# EAGLE library part LPC4078FET180 (library nxp)
32-bit ARM Cortex-M4 MCU; up to 512 kB flash, 96 kB SRAM; USB Device/Host/OTG; Ethernet; LCD; EMC; SPIFI The LPC408x/7x is an ARM Cortex-M4 based digital signal controller for embedded applications requiring a high level of integration and low power dissipation. The ARM Cortex-M4 is a next generation core that offers system enhancements such as low power consumption, enhanced debug features, and a high level of support block integration. The ARM Cortex-M4 CPU incorporates a 3-stage pipeline, uses a Harvard architecture with separate local instruction and data buses as well as a third bus for peripherals, and includes an internal prefetch unit that supports speculative branching. The ARM Cortex-M4 supports single-cycle digital signal processing and SIMD instructions. A hardware floating-point processor is integrated in the core for several versions of the part. The LPC408x/7x adds a specialized flash memory accelerator to accomplish optimal performance when executing code from flash. The LPC408x/7x is targeted to operate at up to 120 MHz CPU frequency. The peripheral complement of the LPC408x/7x includes up to 512 kB of flash program memory, up to 96 kB of SRAM data memory, up to 4032 byte of EEPROM data memory, External Memory controller (EMC), LCD, Ethernet, USB Device/Host/OTG, an SPI Flash Interface (SPIFI), a General Purpose DMA controller, five UARTs, three SSP controllers, three I2C-bus interfaces, a Quadrature Encoder Interface, four general purpose timers, two general purpose PWMs with six outputs each and one motor control PWM, an ultra-low power RTC with separate battery supply and event recorder, a windowed watchdog timer, a CRC calculation engine and up to 165 general purpose I/O pins. The analog peripherals include one eight-channel 12-bit ADC, two analog comparators, and a DAC. The pinout of LPC408x/7x is intended to allow pin function compatibility with the LPC24xx/23xx as well as the LPC178x/7x families.
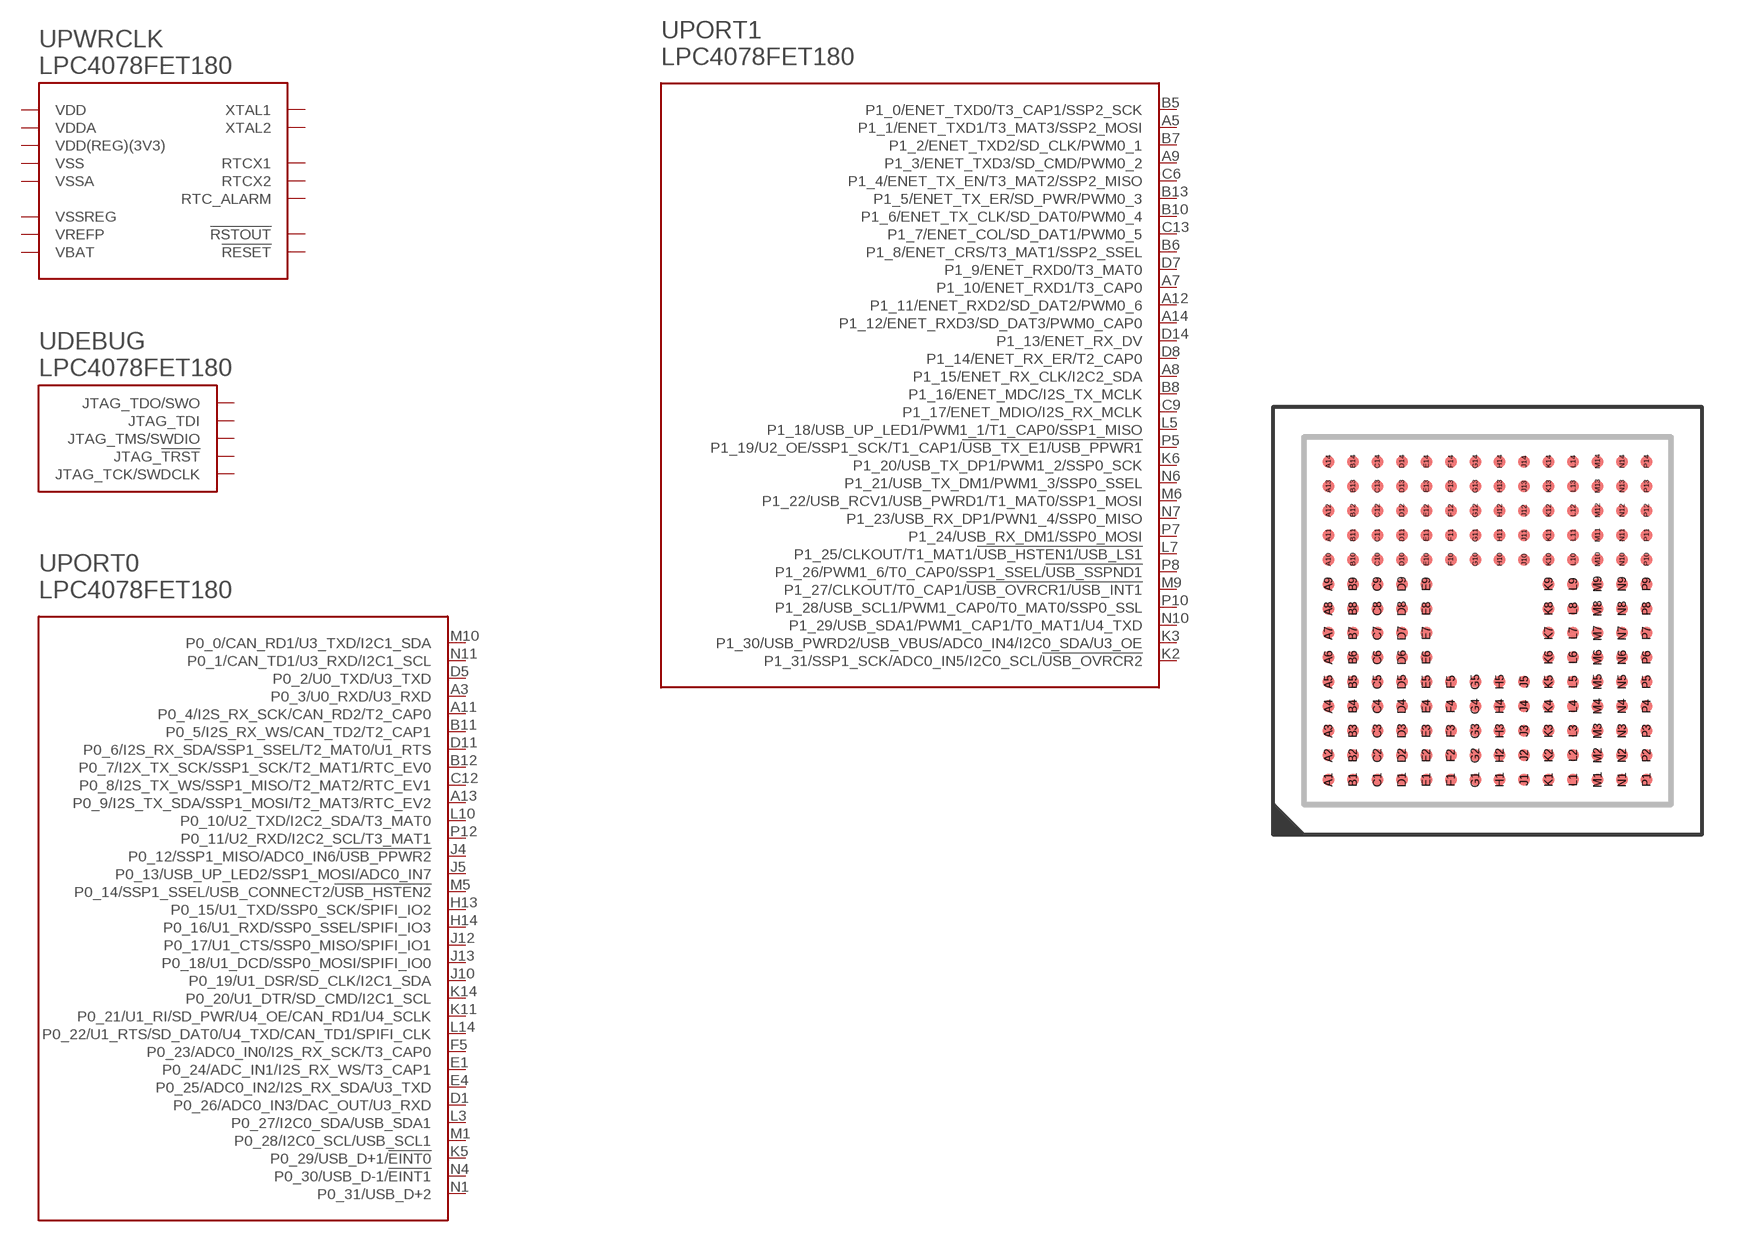
[diagram p3: symbol with the pads of SOT570-2; footprint SOT570-2]

Designator prefix U; gates PWRCLK=LPC40X8-PWRCLK DEBUG=LPC40X8-DEBUG PORT0=LPC40X8-PORT0 PORT1=LPC40X8-PORT1

## LPC4078FET180  [SOT570-2]
A3  PORT0:P0_3/U0_RXD/U3_RXD
A5  PORT1:P1_1/ENET_TXD1/T3_MAT3/SSP2_MOSI
A7  PORT1:P1_10/ENET_RXD1/T3_CAP0
A8  PORT1:P1_15/ENET_RX_CLK/I2C2_SDA
A9  PORT1:P1_3/ENET_TXD3/SD_CMD/PWM0_2
A10  PWRCLK:VSSREG  pwr
A11  PORT0:P0_4/I2S_RX_SCK/CAN_RD2/T2_CAP0
A12  PORT1:P1_11/ENET_RXD2/SD_DAT2/PWM0_6
A13  PORT0:P0_9/I2S_TX_SDA/SSP1_MOSI/T2_MAT3/RTC_EV2
A14  PORT1:P1_12/ENET_RXD3/SD_DAT3/PWM0_CAP0
B1  DEBUG:JTAG_TDO/SWO  out
B4  PWRCLK:VSS  pwr
B5  PORT1:P1_0/ENET_TXD0/T3_CAP1/SSP2_SCK
B6  PORT1:P1_8/ENET_CRS/T3_MAT1/SSP2_SSEL
B7  PORT1:P1_2/ENET_TXD2/SD_CLK/PWM0_1
B8  PORT1:P1_16/ENET_MDC/I2S_TX_MCLK
B10  PORT1:P1_6/ENET_TX_CLK/SD_DAT0/PWM0_4
B11  PORT0:P0_5/I2S_RX_WS/CAN_TD2/T2_CAP1
B12  PORT0:P0_7/I2X_TX_SCK/SSP1_SCK/T2_MAT1/RTC_EV0
B13  PORT1:P1_5/ENET_TX_ER/SD_PWR/PWM0_3
C2  DEBUG:JTAG_TMS/SWDIO  in
C3  DEBUG:JTAG_TDI  in
C5  PWRCLK:VDD  pwr
C6  PORT1:P1_4/ENET_TX_EN/T3_MAT2/SSP2_MISO
C9  PORT1:P1_17/ENET_MDIO/I2S_RX_MCLK
C11  PWRCLK:VSS  pwr
C12  PORT0:P0_8/I2S_TX_WS/SSP1_MISO/T2_MAT2/RTC_EV1
C13  PORT1:P1_7/ENET_COL/SD_DAT1/PWM0_5
D1  PORT0:P0_26/ADC0_IN3/DAC_OUT/U3_RXD
D2  DEBUG:JTAG_TCK/SWDCLK  in
D4  DEBUG:JTAG_!TRST  in
D5  PORT0:P0_2/U0_TXD/U3_TXD
D7  PORT1:P1_9/ENET_RXD0/T3_MAT0
D8  PORT1:P1_14/ENET_RX_ER/T2_CAP0
D11  PORT0:P0_6/I2S_RX_SDA/SSP1_SSEL/T2_MAT0/U1_RTS
D13  PWRCLK:VSS  pwr
D14  PORT1:P1_13/ENET_RX_DV
E1  PORT0:P0_24/ADC_IN1/I2S_RX_WS/T3_CAP1
E2  PWRCLK:VDD  pwr
E4  PORT0:P0_25/ADC0_IN2/I2S_RX_SDA/U3_TXD
E9  PWRCLK:VDD(REG)(3V3)  pwr
E10  PWRCLK:VDD  pwr
E12  PWRCLK:VDD  pwr
F2  PWRCLK:VDDA  pwr
F3  PWRCLK:VSSA  pwr
F5  PORT0:P0_23/ADC0_IN0/I2S_RX_SCK/T3_CAP0
G1  PWRCLK:VDD(REG)(3V3)  pwr
G2  PWRCLK:VREFP  pwr
G13  PWRCLK:VSS  pwr
H2  PWRCLK:!RSTOUT!  out
H3  PWRCLK:VSSREG  pwr
H4  PWRCLK:VSS  pwr
H5  PWRCLK:RTC_ALARM  out
H13  PORT0:P0_15/U1_TXD/SSP0_SCK/SPIFI_IO2
H14  PORT0:P0_16/U1_RXD/SSP0_SSEL/SPIFI_IO3
J1  PWRCLK:!RESET!  in
J2  PWRCLK:RTCX1  in
J3  PWRCLK:RTCX2  out
J4  PORT0:P0_12/SSP1_MISO/ADC0_IN6/!USB_PPWR2
J5  PORT0:P0_13/USB_UP_LED2/SSP1_MOSI/ADC0_IN7
J10  PORT0:P0_19/U1_DSR/SD_CLK/I2C1_SDA
J12  PORT0:P0_17/U1_CTS/SSP0_MISO/SPIFI_IO1
J13  PORT0:P0_18/U1_DCD/SSP0_MOSI/SPIFI_IO0
J14  PWRCLK:VDD  pwr
K1  PWRCLK:VBAT  pwr
K2  PORT1:P1_31/SSP1_SCK/ADC0_IN5/I2C0_SCL/!USB_OVRCR2
K3  PORT1:P1_30/USB_PWRD2/USB_VBUS/ADC0_IN4/I2C0_SDA/U3_OE
K4  PWRCLK:XTAL2  out
K5  PORT0:P0_29/USB_D+1/!EINT0
K6  PORT1:P1_20/USB_TX_DP1/PWM1_2/SSP0_SCK
K8  PWRCLK:VDD  pwr
K11  PORT0:P0_21/U1_RI/SD_PWR/U4_OE/CAN_RD1/U4_SCLK
K14  PORT0:P0_20/U1_DTR/SD_CMD/I2C1_SCL
L2  PWRCLK:XTAL1  in
L3  PORT0:P0_27/I2C0_SDA/USB_SDA1
L4  PWRCLK:VDD  pwr
L5  PORT1:P1_18/USB_UP_LED1/PWM1_1/T1_CAP0/SSP1_MISO
L7  PORT1:P1_25/CLKOUT/T1_MAT1/!USB_HSTEN1/USB_LS1
L8  PWRCLK:VSSREG  pwr
L9  PWRCLK:VSS  pwr
L10  PORT0:P0_10/U2_TXD/I2C2_SDA/T3_MAT0
L11  PWRCLK:VDD  pwr
L13  PWRCLK:VSS  pwr
L14  PORT0:P0_22/U1_RTS/SD_DAT0/U4_TXD/CAN_TD1/SPIFI_CLK
M1  PORT0:P0_28/I2C0_SCL/USB_SCL1
M5  PORT0:P0_14/SSP1_SSEL/USB_CONNECT2/!USB_HSTEN2
M6  PORT1:P1_22/USB_RCV1/USB_PWRD1/T1_MAT0/SSP1_MOSI
M9  PORT1:P1_27/CLKOUT/T0_CAP1/!USB_OVRCR1/USB_INT1
M10  PORT0:P0_0/CAN_RD1/U3_TXD/I2C1_SDA
N1  PORT0:P0_31/USB_D+2
N4  PORT0:P0_30/USB_D-1/!EINT1
N6  PORT1:P1_21/USB_TX_DM1/PWM1_3/SSP0_SSEL
N7  PORT1:P1_23/USB_RX_DP1/PWN1_4/SSP0_MISO
N9  PWRCLK:VDD(REG)(3V3)  pwr
N10  PORT1:P1_29/USB_SDA1/PWM1_CAP1/T0_MAT1/U4_TXD
N11  PORT0:P0_1/CAN_TD1/U3_RXD/I2C1_SCL
P4  PWRCLK:VSS  pwr
P5  PORT1:P1_19/U2_OE/SSP1_SCK/T1_CAP1/!USB_TX_E1/USB_PPWR1
P7  PORT1:P1_24/USB_RX_DM1/SSP0_MOSI
P8  PORT1:P1_26/PWM1_6/T0_CAP0/SSP1_SSEL/!USB_SSPND1
P10  PORT1:P1_28/USB_SCL1/PWM1_CAP0/T0_MAT0/SSP0_SSL
P12  PORT0:P0_11/U2_RXD/I2C2_SCL/T3_MAT1

## Footprint SOT570-2 (pad centres in mm)
SOT570-2 TFBGA180: thin fine-pitch ball grid array package; 180 balls; body 12 x 12 x 0.8 mm JEDEC: -- IEC: -- JEITA: -- Shamelessly copied from nxp_packages.lbr
smd 0.4 x 0.4: A1 -5.2,-5.2; A2 -5.2,-4.4; A3 -5.2,-3.6; A4 -5.2,-2.8; A5 -5.2,-2; A6 -5.2,-1.2; A7 -5.2,-0.4; A8 -5.2,0.4; A9 -5.2,1.2; A10 -5.2,2; A11 -5.2,2.8; A12 -5.2,3.6; A13 -5.2,4.4; A14 -5.2,5.2; B1 -4.4,-5.2; B2 -4.4,-4.4; B3 -4.4,-3.6; B4 -4.4,-2.8; B5 -4.4,-2; B6 -4.4,-1.2; B7 -4.4,-0.4; B8 -4.4,0.4; B9 -4.4,1.2; B10 -4.4,2; B11 -4.4,2.8; B12 -4.4,3.6; B13 -4.4,4.4; B14 -4.4,5.2; C1 -3.6,-5.2; C2 -3.6,-4.4; C3 -3.6,-3.6; C4 -3.6,-2.8; C5 -3.6,-2; C6 -3.6,-1.2; C7 -3.6,-0.4; C8 -3.6,0.4; C9 -3.6,1.2; C10 -3.6,2; C11 -3.6,2.8; C12 -3.6,3.6; C13 -3.6,4.4; C14 -3.6,5.2; D1 -2.8,-5.2; D2 -2.8,-4.4; D3 -2.8,-3.6; D4 -2.8,-2.8; D5 -2.8,-2; D6 -2.8,-1.2; D7 -2.8,-0.4; D8 -2.8,0.4; D9 -2.8,1.2; D10 -2.8,2; D11 -2.8,2.8; D12 -2.8,3.6; D13 -2.8,4.4; D14 -2.8,5.2; E1 -2,-5.2; E2 -2,-4.4; E3 -2,-3.6; E4 -2,-2.8; E5 -2,-2; E6 -2,-1.2; E7 -2,-0.4; E8 -2,0.4; E9 -2,1.2; E10 -2,2; E11 -2,2.8; E12 -2,3.6; E13 -2,4.4; E14 -2,5.2; F1 -1.2,-5.2; F2 -1.2,-4.4; F3 -1.2,-3.6; F4 -1.2,-2.8; F5 -1.2,-2; F10 -1.2,2; F11 -1.2,2.8; F12 -1.2,3.6; F13 -1.2,4.4; F14 -1.2,5.2; G1 -0.4,-5.2; G2 -0.4,-4.4; G3 -0.4,-3.6; G4 -0.4,-2.8; G5 -0.4,-2; G10 -0.4,2; G11 -0.4,2.8; G12 -0.4,3.6; G13 -0.4,4.4; G14 -0.4,5.2; H1 0.4,-5.2; H2 0.4,-4.4; H3 0.4,-3.6; H4 0.4,-2.8; H5 0.4,-2; H10 0.4,2; H11 0.4,2.8; H12 0.4,3.6; H13 0.4,4.4; H14 0.4,5.2; J1 1.2,-5.2; J2 1.2,-4.4; J3 1.2,-3.6; J4 1.2,-2.8; J5 1.2,-2; J10 1.2,2; J11 1.2,2.8; J12 1.2,3.6; J13 1.2,4.4; J14 1.2,5.2; K1 2,-5.2; K2 2,-4.4; K3 2,-3.6; K4 2,-2.8; K5 2,-2; K6 2,-1.2; K7 2,-0.4; K8 2,0.4; K9 2,1.2; K10 2,2; K11 2,2.8; K12 2,3.6; K13 2,4.4; K14 2,5.2; L1 2.8,-5.2; L2 2.8,-4.4; L3 2.8,-3.6; L4 2.8,-2.8; L5 2.8,-2; L6 2.8,-1.2; L7 2.8,-0.4; L8 2.8,0.4; L9 2.8,1.2; L10 2.8,2; L11 2.8,2.8; L12 2.8,3.6; L13 2.8,4.4; L14 2.8,5.2; M1 3.6,-5.2; M2 3.6,-4.4; M3 3.6,-3.6; M4 3.6,-2.8; M5 3.6,-2; M6 3.6,-1.2; M7 3.6,-0.4; M8 3.6,0.4; M9 3.6,1.2; M10 3.6,2; M11 3.6,2.8; M12 3.6,3.6; M13 3.6,4.4; M14 3.6,5.2; N1 4.4,-5.2; N2 4.4,-4.4; N3 4.4,-3.6; N4 4.4,-2.8; N5 4.4,-2; N6 4.4,-1.2; N7 4.4,-0.4; N8 4.4,0.4; N9 4.4,1.2; N10 4.4,2; N11 4.4,2.8; N12 4.4,3.6; N13 4.4,4.4; N14 4.4,5.2; P1 5.2,-5.2; P2 5.2,-4.4; P3 5.2,-3.6; P4 5.2,-2.8; P5 5.2,-2; P6 5.2,-1.2; P7 5.2,-0.4; P8 5.2,0.4; P9 5.2,1.2; P10 5.2,2; P11 5.2,2.8; P12 5.2,3.6; P13 5.2,4.4; P14 5.2,5.2